# EAGLE library part PTH08T220WAD (library PTN78000WAH)
DC/DC, 14VIN, 16A, 1.5%, ADJ, MODULE
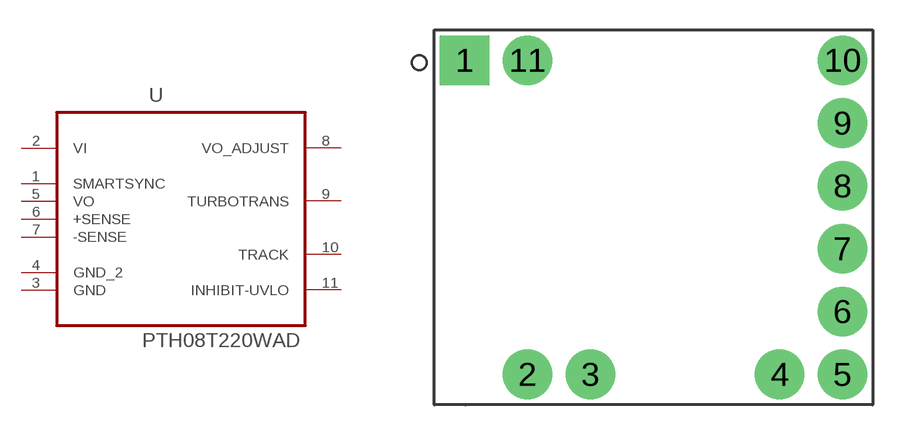
[diagram p10: symbol with the pads of TI_PTH08T220WAD; footprint TI_PTH08T220WAD]

Designator prefix U

## PTH08T220WAD (MPN: PTH08T220WAD; OC_FARNELL: 2144313; OC_NEWARK: 66K4116; PACKAGE: Through-Hole Module; SUPPLIER: TEXAS INSTRUMENTS)  [TI_PTH08T220WAD]
1  SMARTSYNC  in
2  VI  pwr
3  GND  pas
4  GND_2  pas
5  VO  out
6  +SENSE  in
7  -SENSE  in
8  VO_ADJUST  pas
9  TURBOTRANS  in
10  TRACK  in
11  INHIBIT-UVLO  in

## Footprint TI_PTH08T220WAD (pad centres in mm)
drill 1.4 pad 2.5 square: 1 -9.525,7.925
drill 1.4 pad 2.5: 2 -6.355,-7.925; 3 -3.185,-7.925; 4 6.355,-7.925; 5 9.525,-7.925; 6 9.525,-4.755; 7 9.525,-1.585; 8 9.525,1.585; 9 9.525,4.755; 10 9.525,7.925; 11 -6.355,7.925